# EAGLE library part IRF7105TRPBF (library IRF7105TRPBF)
Infineon IRF7105TRPBF Dual N/P-Channel MOSFET, 2.3 A, 3.5 A, 25 V HEXFET, 8-Pin SOIC Source: Datasheet <https://www.infineon.com/dgdl/irf7105pbf.pdf?fileId=5546d462533600a4015355f118ff1ad0>
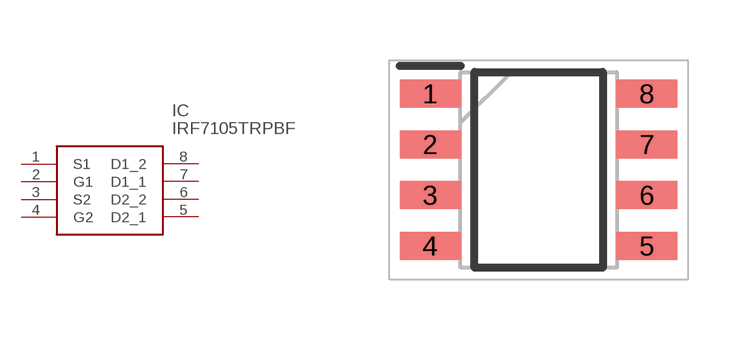
[diagram p0: symbol with the pads of SOIC127P600X175-8N; footprint SOIC127P600X175-8N]

Designator prefix IC

## IRF7105TRPBF (Description: Infineon IRF7105TRPBF Dual N/P-Channel MOSFET, 2.3 A, 3.5 A, 25 V HEXFET, 8-Pin SOIC; Height: 1.75mm; Manufacturer_Name: Infineon; Manufacturer_Part_Number: IRF7105TRPBF; Mouser_Part_Number: 942-IRF7105TRPBF; Mouser_Price-Stock: https://www.mouser.co.uk/ProductDetail/Infineon-IR/IRF7105TRPBF?qs=9%252BKlkBgLFf2ZeGr7NayKjg%3D%3D)  [SOIC127P600X175-8N]
1  S1
2  G1
3  S2
4  G2
5  D2_1
6  D2_2
7  D1_1
8  D1_2

## Footprint SOIC127P600X175-8N (pad centres in mm)
IRF7105TRPBF-1
smd 1.525 x 0.7: 1 -2.712,1.905; 2 -2.712,0.635; 3 -2.712,-0.635; 4 -2.712,-1.905; 5 2.712,-1.905; 6 2.712,-0.635; 7 2.712,0.635; 8 2.712,1.905